# Altium footprint library Connectors.PcbLib: 67 footprints (part 3 of 5)
Each footprint in its own frame and in the unit in brackets; x right, y up, seen from the top. Pads: shape width x height; smd on the part's side, far side on the other; paste and mask are expansions set on the pad; w line width, h text height; cw(c..) or ccw(c..) is an arc to the next point about the centre after c.
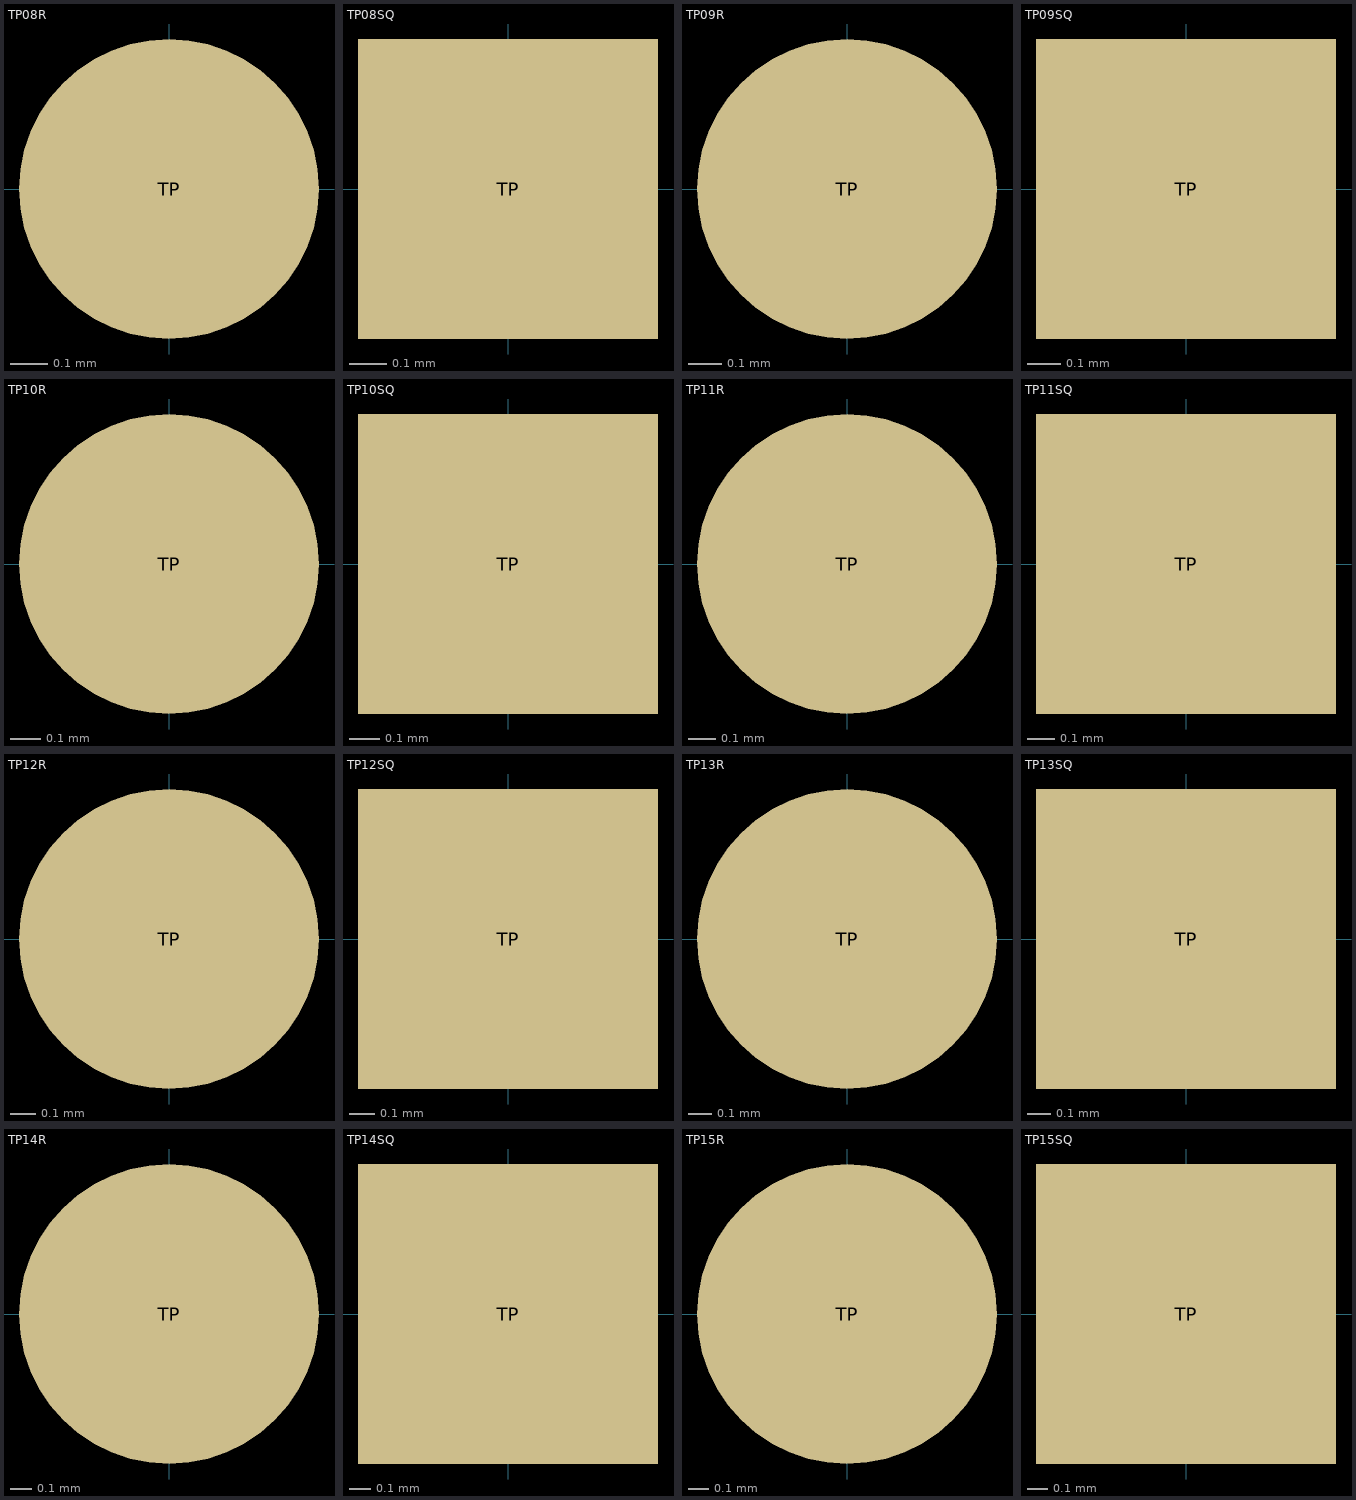
[diagram p2: the footprints below, top view; thin cyan lines are the x and y axes]

## TP08R [mil]
pads (1):
  rrect100% 31.5x31.5 smd paste-15.75: TP(0,0)

## TP08SQ [mil]
pads (1):
  rect 31.5x31.5 smd paste-15.75: TP(0,0)

## TP09R [mm]
pads (1):
  rrect100% 0.9x0.9 smd paste-0.45: TP(0,0)

## TP09SQ [mm]
pads (1):
  rect 0.9x0.9 smd paste-0.45: TP(0,0)

## TP10R [mm]
pads (1):
  rrect100% 1x1 smd paste-0.5: TP(0,0)

## TP10SQ [mm]
pads (1):
  rect 1x1 smd paste-0.5: TP(0,0)

## TP11R [mm]
pads (1):
  rrect100% 1.1x1.1 smd paste-0.55: TP(0,0)

## TP11SQ [mm]
pads (1):
  rect 1.1x1.1 smd paste-0.55: TP(0,0)

## TP12R [mm]
pads (1):
  rrect100% 1.2x1.2 smd paste-0.6: TP(0,0)

## TP12SQ [mm]
pads (1):
  rect 1.2x1.2 smd paste-0.6: TP(0,0)

## TP13R [mm]
pads (1):
  rrect100% 1.3x1.3 smd paste-0.65: TP(0,0)

## TP13SQ [mm]
pads (1):
  rect 1.3x1.3 smd paste-0.65: TP(0,0)

## TP14R [mm]
pads (1):
  rrect100% 1.4x1.4 smd paste-0.7: TP(0,0)

## TP14SQ [mm]
pads (1):
  rect 1.4x1.4 smd paste-0.7: TP(0,0)

## TP15R [mm]
pads (1):
  rrect100% 1.5x1.5 smd paste-0.75: TP(0,0)

## TP15SQ [mm]
pads (1):
  rect 1.5x1.5 smd paste-0.75: TP(0,0)